# EAGLE library part SICHERUNG_3-POL (library e-sicherungen)
Sicherung, 3-pol.
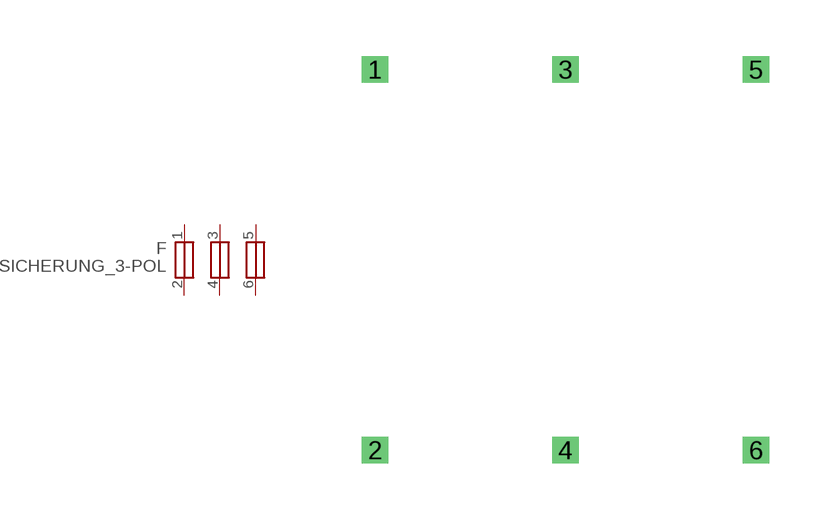
[diagram p1: symbol with the pads of SICHERUNG_3-POL; footprint SICHERUNG_3-POL]

Designator prefix F

## SICHERUNG_3-POL  [SICHERUNG_3-POL]
1  1  pas
2  2  pas
3  3  pas
4  4  pas
5  5  pas
6  6  pas

## Footprint SICHERUNG_3-POL (pad centres in mm)
Dummy
drill 0.2 pad 0.6 square: 1 -5.08,5.08; 2 -5.08,-5.08; 3 0,5.08; 4 0,-5.08; 5 5.08,5.08; 6 5.08,-5.08